# Altium integrated library ARDUINO_NANO.IntLib: 1 symbol
Pins are listed as number, name and electrical type; pins without a type are passive.

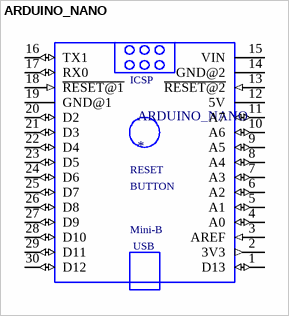
[diagram p0: symbol ARDUINO_NANO]

## ARDUINO_NANO
designator ARDUINO_NANO
ATSAMD21G18A Arduino Nano 33 IoT SAM D ARMÂ® CortexÂ®-M0+ MCU 32-Bit Embedded Evaluation Board; Package: None; Availability: Unavailable; MP: ARDUINO NANO; Value: *; SnapEDA_Link: https://www.snapeda.com/parts/ARDUINO%20NANO/Arduino/view-part/1128261/?ref=snap; Price: None; MF: Arduino
footprint ARDUINO_NANO
pins: 1 D13 (io), 2 3V3 (out), 3 AREF (in), 4 A0 (io), 5 A1 (io), 6 A2 (io), 7 A3 (io), 8 A4 (io), 9 A5 (io), 10 A6 (io), 11 A7 (io), 12 5V (power), 13 ~{RESET@2} (in), 14 GND@2 (power), 15 VIN (power), 16 TX1 (io), 17 RX0 (io), 18 ~{RESET@1} (in), 19 GND@1 (power), 20 D2 (io), 21 D3 (io), 22 D4 (io), 23 D5 (io), 24 D6 (io), 25 D7 (io), 26 D8 (io), 27 D9 (io), 28 D10 (io), 29 D11 (io), 30 D12 (io)
text: ICSP; RESET; BUTTON; Mini-B; USB